# EAGLE library part MKS1862-6-0-1212 (library con-stocko)
Serie MKS 1850 Lötstifte In-line, Raster 2.5 mm, Stiftwannen, stehend, mit Rastlasche Source: http://www.stocko.de/de/index.php?seite=ka_rfk2_mks1850.html&rubrik=Katalog+-+RFK+2 rfk_1850.pdf
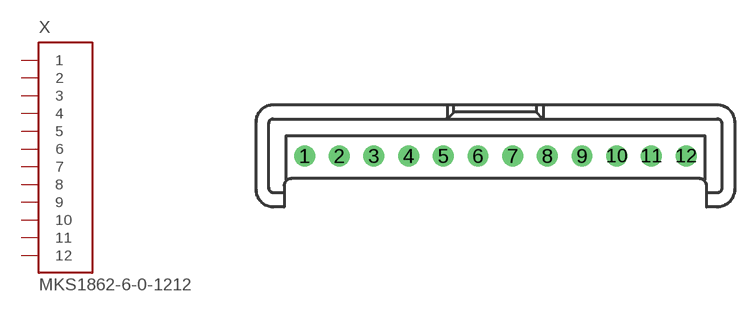
[diagram p6: symbol with the pads of MKS1862-6-0-1212; footprint MKS1862-6-0-1212]

Designator prefix X

## MKS1862-6-0-1212 (OC_FARNELL: unknown; OC_NEWARK: unknown)  [MKS1862-6-0-1212]
1  1  in
2  2  in
3  3  in
4  4  in
5  5  in
6  6  in
7  7  in
8  8  in
9  9  in
10  10  in
11  11  in
12  12  in

## Footprint MKS1862-6-0-1212 (pad centres in mm)
Serie MKS 1850 Lötstifte In-line, Raster 2.5 mm, Stiftwannen, stehend, mit Rastlasche Source: http://www.stocko.de/de/index.php?seite=ka_rfk2_mks1850.html&rubrik=Katalog+-+RFK+2 rfk_1850.pdf
drill 1 pad 1.422: 1 -13.75,0; 2 -11.25,0; 3 -8.75,0; 4 -6.25,0; 5 -3.75,0; 6 -1.25,0; 7 1.25,0; 8 3.75,0; 9 6.25,0; 10 8.75,0; 11 11.25,0; 12 13.75,0